# EAGLE library part AS4C8M16S-128MBIT_SDRAM (library Custom)
AS4C8M16S - 128Mbit SDRAM 8M x 16
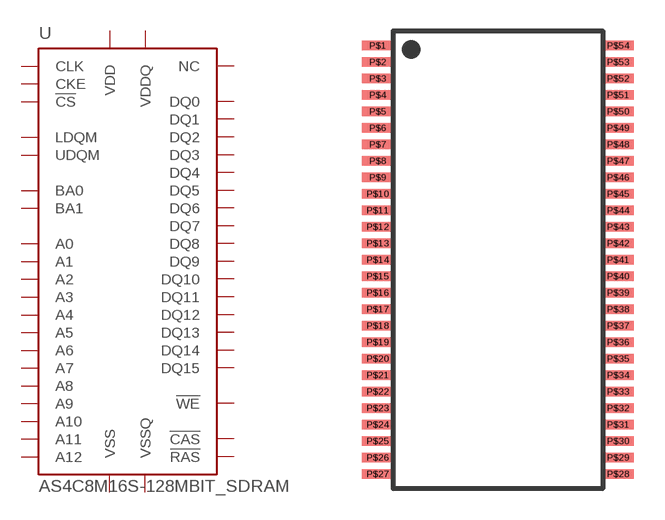
[diagram p13: symbol with the pads of TSOP54-II; footprint TSOP54-II]

Designator prefix U

## AS4C8M16S-128MBIT_SDRAM  [TSOP54-II]
P$1  VDD  pwr
P$2  DQ0  hiz
P$3  VDDQ  pwr
P$4  DQ1  hiz
P$5  DQ2  hiz
P$6  VSSQ  pwr
P$7  DQ3  hiz
P$8  DQ4  hiz
P$9  VDDQ  pwr
P$10  DQ5  hiz
P$11  DQ6  hiz
P$12  VSSQ  pwr
P$13  DQ7  hiz
P$14  VDD  pwr
P$15  LDQM  in
P$16  !WE  in
P$17  !CAS  in
P$18  !RAS  in
P$19  !CS  in
P$20  BA0  in
P$21  BA1  in
P$22  A10  in
P$23  A0  in
P$24  A1  in
P$25  A2  in
P$26  A3  in
P$27  VDD  pwr
P$28  VSS  pwr
P$29  A4  in
P$30  A5  in
P$31  A6  in
P$32  A7  in
P$33  A8  in
P$34  A9  in
P$35  A11  in
P$36  A12  in
P$37  CKE  in
P$38  CLK  in
P$39  UDQM  in
P$40  NC  nc
P$41  VSS  pwr
P$42  DQ8  hiz
P$43  VDDQ  pwr
P$44  DQ9  hiz
P$45  DQ10  hiz
P$46  VSSQ  pwr
P$47  DQ11  hiz
P$48  DQ12  hiz
P$49  VDDQ  pwr
P$50  DQ13  hiz
P$51  DQ14  hiz
P$52  VSSQ  pwr
P$53  DQ15  hiz
P$54  VSS  pwr

## Footprint TSOP54-II (pad centres in mm)
smd 1.51 x 0.458: P$1 -5.835,10.4; P$2 -5.835,9.6; P$3 -5.835,8.8; P$4 -5.835,8; P$5 -5.835,7.2; P$6 -5.835,6.4; P$7 -5.835,5.6; P$8 -5.835,4.8; P$9 -5.835,4; P$10 -5.835,3.2; P$11 -5.835,2.4; P$12 -5.835,1.6; P$13 -5.835,0.8; P$14 -5.835,0; P$15 -5.835,-0.8; P$16 -5.835,-1.6; P$17 -5.835,-2.4; P$18 -5.835,-3.2; P$19 -5.835,-4; P$20 -5.835,-4.8; P$21 -5.835,-5.6; P$22 -5.835,-6.4; P$23 -5.835,-7.2; P$24 -5.835,-8; P$25 -5.835,-8.8; P$26 -5.835,-9.6; P$27 -5.835,-10.4; P$28 5.835,-10.4; P$29 5.835,-9.6; P$30 5.835,-8.8; P$31 5.835,-8; P$32 5.835,-7.2; P$33 5.835,-6.4; P$34 5.835,-5.6; P$35 5.835,-4.8; P$36 5.835,-4; P$37 5.835,-3.2; P$38 5.835,-2.4; P$39 5.835,-1.6; P$40 5.835,-0.8; P$41 5.835,0; P$42 5.835,0.8; P$43 5.835,1.6; P$44 5.835,2.4; P$45 5.835,3.2; P$46 5.835,4; P$47 5.835,4.8; P$48 5.835,5.6; P$49 5.835,6.4; P$50 5.835,7.2; P$51 5.835,8; P$52 5.835,8.8; P$53 5.835,9.6; P$54 5.835,10.4